# Altium schematic symbol library GuitarLibrary.SchLib: 35 symbols
Pins are listed as number, name and electrical type; pins without a type are passive.

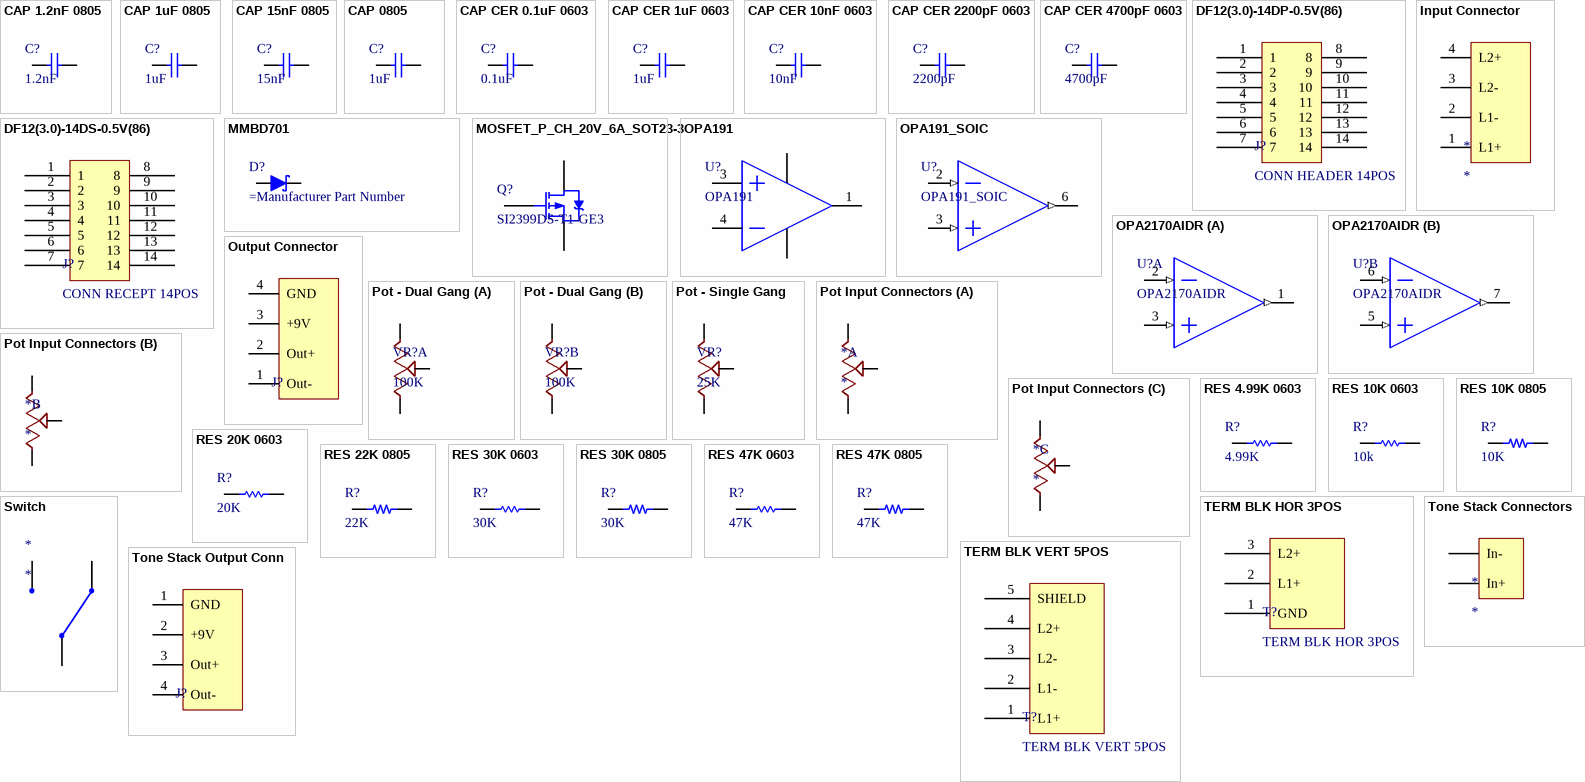
[diagram p0: symbols CAP 1.2nF 0805 to Tone Stack Output Conn]

## CAP 1.2nF 0805
designator C?, comment 1.2nF
CAP 1.2nF 0805; Rating: C0G; Value: 1.2nF
footprint CAPC2012X09N (Chip Capacitor, 2-Leads, Body 2.00x1.25mm, IPC Medium Density)
pins: 1, 2

## CAP 1uF 0805
designator C?, comment 1uF
CAP 1uF 0805; Rating: X7R; Value: 1uF
footprint CAPC2012X09N (Chip Capacitor, 2-Leads, Body 2.00x1.25mm, IPC Medium Density)
pins: 1, 2

## CAP 15nF 0805
designator C?, comment 15nF
CAP 15nF 0805; Rating: C0G; Value: 15nF
footprint CAPC2012X09N (Chip Capacitor, 2-Leads, Body 2.00x1.25mm, IPC Medium Density)
pins: 1, 2

## CAP 0805
designator C?, comment 1uF
CAP 0805; Value: 1uF
footprint CAPC2012X09N (Chip Capacitor, 2-Leads, Body 2.00x1.25mm, IPC Medium Density)
pins: 1, 2

## CAP CER 0.1uF 0603
designator C?, comment 0.1uF
Voltage: 50V; Rating: X7R; Tolerance: 10%; Value: 0.1uF; Digikey Part Number: 490-1519-1-ND; Package: 0603
footprint CAPC1608X09N (Chip Capacitor, 2-Leads, Body 1.60x0.80mm, IPC Medium Density)
pins: 1, 2

## CAP CER 1uF 0603
designator C?, comment 1uF
Manufacturer: Murata; Manufacturer Part Number: GRM188R7YA105KA12D; Voltage: 35V; Rating: X7R; Tolerance: 10%; Value: 1uF; Digikey Part Number: 490-10487-1-ND
footprint CAPC1608X09N (Chip Capacitor, 2-Leads, Body 1.60x0.80mm, IPC Medium Density)
pins: 1, 2

## CAP CER 10nF 0603
designator C?, comment 10nF
Bypass caps; Manufacturer: Murata; Digikey Part Number: 490-9666-1-ND; Value: 10nF
footprint CAPC1608X09N (Chip Capacitor, 2-Leads, Body 1.60x0.80mm, IPC Medium Density)
pins: 1, 2

## CAP CER 2200pF 0603
designator C?, comment 2200pF
Manufacturer: Murata; Voltage: 50V; Tolerance: 1%; Rating: C0G; Value: 2200pF; Digikey Part Number: 490-7768-1-ND
footprint CAPC1608X09N (Chip Capacitor, 2-Leads, Body 1.60x0.80mm, IPC Medium Density)
pins: 1, 2

## CAP CER 4700pF 0603
designator C?, comment 4700pF
Manufacturer: TDK; Voltage: 100V; Tolerance: 5%; Rating: C0G; Value: 4700pF; Digikey Part Number: 445-172684-1-ND
footprint CAPC1608X09N (Chip Capacitor, 2-Leads, Body 1.60x0.80mm, IPC Medium Density)
pins: 1, 2

## DF12(3.0)-14DP-0.5V(86)
designator J?, comment CONN HEADER 14POS
14 Position Connector Header, Outer Shroud Contacts Surface Mount Gold
footprint DF12(3.0)-14DP (CONN HEADER 14POS 3MM SMD 0.5MM)
pins: 1, 2, 3, 4, 5, 6, 7, 8, 9, 10, 11, 12, 13, 14

## DF12(3.0)-14DS-0.5V(86)
designator J?, comment CONN RECEPT 14POS
14 Position Connector Header, Outer Shroud Contacts Surface Mount Gold
footprint DF12(3.0)-14DS (CONN RECEPT 14POS 3MM SMD 0.5MM)
pins: 1, 2, 3, 4, 5, 6, 7, 8, 9, 10, 11, 12, 13, 14

## Input Connector
designator *
footprint Conn 4 Pin 2.54mm Pitch (Connector, Through-hole, 2.54mm Pitch)
pins: 1 L1+, 2 L1-, 3 L2-, 4 L2+

## MMBD701
designator D?
SOT-23 Schottky Diode; Type: SCHOT; Voltage: 40V; Footprint: DO-214AC; Digikey Part Number: SS14-E3/61TGICT-ND
footprint SOT95P230X110-3N (SOT23, 3-Leads, Body 2.90x2.30mm, Pitch 0.95mm, IPC Medium Density)
pins: 1, 3

## MOSFET_P_CH_20V_6A_SOT23-3
designator Q?, comment SI2399DS-T1-GE3
Reverse Voltage MOSFET; Manufacturer: Vishay Siliconix; VDS: 20V; Rds On (Max): 34 mOhm @ 5.1A, 10V; Digikey Part Number: SI2399DS-T1-GE3CT-ND; Value: SI2399DS-T1-GE3
footprint SOT95P237X112-3N (SOT23, 3-Leads, Body 2.92x2.37mm, Pitch 0.95mm, IPC Medium Density)
pins: 1 G, 2 S, 3 D

## OPA191
designator U?
Low Power CMOS Amp; Manufacturer: Texas Instruments; Amplifier: Low Power
footprint SOT23-5
pins: 1 Out, 2 V- hidden to GND, 3 +IN, 4 -IN, 5 V+ hidden to V+

## OPA191_SOIC
designator U?
Low Power CMOS Amp; Manufacturer: Texas Instruments; Digikey Part Number: 296-43805-1-ND; Amplifier: Low Power
footprint SOIC127P600X175-8N (SOIC, 8-Leads, Body 4.90x3.90mm, Pitch 1.27mm, IPC Medium Density)
pins: 2 -IN (in), 3 +IN (in), 4 V- hidden to GND, 6 Out (out), 7 V+ (in) hidden to V+

## OPA2170AIDR
designator U?
Low Power CMOS Amp; Manufacturer: Texas Instruments; Amplifier: Low Power
footprint SOIC127P600X175-8M (SOIC, 8-Leads, Body 4.90x3.90mm, Pitch 1.27mm, IPC Low Density)
part A pins: 1 Out_A (out), 2 -IN_A (in), 3 +IN_A (in), 4 V- (power) hidden to GND, 8 V+ (power) hidden to V+
part B pins: 5 +IN_B (in), 6 -IN_B (in), 7 OUT_B (out)

## Output Connector
designator J?  (value not drawn)
footprint Conn 4 Pin 2.54mm Pitch (Connector, Through-hole, 2.54mm Pitch)
pins: 1 Out-, 2 Out+, 3 +9V, 4 GND

## Pot - Dual Gang
designator VR?, comment 100K
Cable: 455-3015-ND; Digikey Part Number: 455-1806-1-ND; Value: 100K
footprint SM06B (JST 6 POS 1MM)
part A pins: 2 W1, 4 B1, 5 A1
part B pins: 1 B2, 3 W2, 6 A2

## Pot - Single Gang
designator VR?, comment 25K
Cable: 455-3002-ND; Value: 25K; Digikey Part Number: 455-1804-1-ND
footprint SM04B (JST 4 POS 1MM)
pins: 1 W, 2 B, 3 A

## Pot Input Connectors
designator *
footprint Conn 9 Pin 2.54mm Pitch (Connector, Through-hole, 2.54mm Pitch)
part A pins: 1 A1, 2 W1, 3 B1
part B pins: 4 A2, 5 W2, 6 B2
part C pins: 7 A3, 8 W3, 9 B3

## RES 4.99K 0603
designator R?, comment 4.99K
Tolerance: 1%; Type: RES; Footprint: 0603; Value: 4.99K; Digikey Part Number: 311-4.99KHRCT-ND
footprint RESC1608X06N (Chip Resistor, 2-Leads, Body 1.55x0.85mm, IPC Medium Density)
pins: 1, 2

## RES 10K 0603
designator R?, comment 10k
RES 10K 0603; Manufacturer: Yageo; Manufacturer Part Number: RC0603FR-0710KL; Tolerance: 1%; Power: 0.1W; Type: RES; Footprint: 0603; Temperature: 155dC; Digikey Part Number: 311-10.0KHRCT-ND; Value: 10k
footprint RESC1608X06N (Chip Resistor, 2-Leads, Body 1.55x0.85mm, IPC Medium Density)
pins: 1, 2

## RES 10K 0805
designator R?, comment 10K
RES 10K 0805; Tolerance: 1%; Type: RES; Footprint: 0805; Value: 10K
footprint RESC2012X06N (Chip Resistor, 2-Leads, Body 2.00x1.25mm, IPC Medium Density)
pins: 1, 2

## RES 20K 0603
designator R?, comment 20K
Tolerance: 1%; Power: 0.1W; Footprint: 0603; Value: 20K; Digikey Part Number: 311-20.0KHRCT-ND
footprint RESC1608X06N (Chip Resistor, 2-Leads, Body 1.55x0.85mm, IPC Medium Density)
pins: 1, 2

## RES 22K 0805
designator R?, comment 22K
RES 22K 0805; Tolerance: 1%; Type: RES; Footprint: 0805; Value: 22K
footprint RESC2012X06N (Chip Resistor, 2-Leads, Body 2.00x1.25mm, IPC Medium Density)
pins: 1, 2

## RES 30K 0603
designator R?, comment 30K
RES 30K 0603; Tolerance: 1%; Type: RES; Footprint: 0603; Value: 30K; Digikey Part Number: 311-30.0KHRCT-ND
footprint RESC1608X06N (Chip Resistor, 2-Leads, Body 1.55x0.85mm, IPC Medium Density)
pins: 1, 2

## RES 30K 0805
designator R?, comment 30K
RES 30K 0805; Tolerance: 1%; Type: RES; Footprint: 0805; Value: 30K
footprint RESC2012X06N (Chip Resistor, 2-Leads, Body 2.00x1.25mm, IPC Medium Density)
pins: 1, 2

## RES 47K 0603
designator R?, comment 47K
RES 47K 0603; Tolerance: 1%; Type: RES; Footprint: 0603; Value: 47K; Digikey Part Number: 311-47.0KHRCT-ND
footprint RESC1608X06N (Chip Resistor, 2-Leads, Body 1.55x0.85mm, IPC Medium Density)
pins: 1, 2

## RES 47K 0805
designator R?, comment 47K
RES 47K 0805; Tolerance: 1%; Type: RES; Footprint: 0805; Value: 47K
footprint RESC2012X06N (Chip Resistor, 2-Leads, Body 2.00x1.25mm, IPC Medium Density)
pins: 1, 2

## Switch
designator *
footprint Conn 3 Pin 2.54mm Pitch (Connector, Through-hole, 2.54mm Pitch)
pins: 1, 2, 3

## TERM BLK HOR 3POS
designator T?
3 Position Wire to Board Terminal Block Horizontal with Board 0.100" (2.54mm) Surface Mount
footprint TERM BLK HOR 3POS (3 Position Wire to Board Terminal Block Horizontal with Board 0.100" (2.54mm) Surface Mount)
pins: 1 GND, 2 L1+, 3 L2+

## TERM BLK VERT 5POS
designator T?
5 Position Wire to Board Terminal Block Vertical with Board 0.100" (2.54mm) Surface Mount
footprint TERM BLK 5POS (5 Position Wire to Board Terminal Block Vertical with Board 0.100" (2.54mm) Surface Mount)
pins: 1 L1+, 2 L1-, 3 L2-, 4 L2+, 5 SHIELD

## Tone Stack Connectors
designator *
footprint Conn 2 Pin 2.54mm Pitch (Connector, Through-hole, 2.54mm Pitch)
pins: 1 In+, 2 In-

## Tone Stack Output Conn
designator J?  (value not drawn)
footprint Conn 4 Pin 2.54mm Pitch (Connector, Through-hole, 2.54mm Pitch)
pins: 1 GND, 2 +9V, 3 Out+, 4 Out-